# EAGLE library part TC1320 (library microchip)
8-Bit Digital-to-Analog Converter with Two-Wire Interface
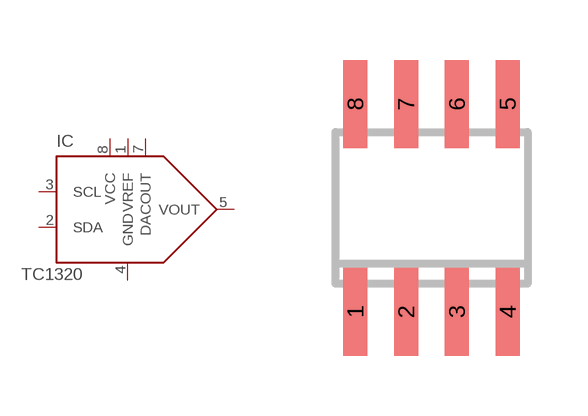
[diagram p57: symbol with the pads of SO-08; footprint SO-08]

Designator prefix IC

## TC1320EOA  [SO-08]
1  VREF  in
2  SDA
3  SCL  in
4  GND  pwr
5  VOUT  out
7  DACOUT  out
8  VCC  pwr

## Footprint SO-08 (pad centres in mm)
Small Outline Narrow Plastic Gull Wing 150-mil body, package type SN
smd 0.6 x 2.2: 1 -1.905,-2.6; 2 -0.635,-2.6; 3 0.635,-2.6; 4 1.905,-2.6; 5 1.905,2.6; 6 0.635,2.6; 7 -0.635,2.6; 8 -1.905,2.6